# Altium schematic symbol library PJ-037A.SchLib: 1 symbol
Pins are listed as number, name and electrical type; pins without a type are passive.

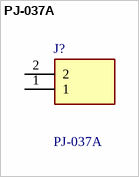
[diagram p0: symbol PJ-037A]

## PJ-037A
designator J?
PJ-037A - 2.0 x 6.5 mm, 2.5 A, Horizontal, Through Hole, Dc Power Jack Connector; Manufacturer_Name: Same Sky; Geometry.Height: 11mm; Manufacturer_Part_Number: PJ-037A; Mouser Part Number: 490-PJ-037A; Mouser Price/Stock: https://www.mouser.co.uk/ProductDetail/Same-Sky/PJ-037A?qs=WyjlAZoYn53bdNRXfildEA%3D%3D; Arrow Part Number: PJ-037A; Arrow Price/Stock: https://www.arrow.com/en/products/pj-037a/cui-devices?utm_currency=USD&region=nac; Datasheet Link: https://www.sameskydevices.com/product/resource/PJ-037A.pdf
footprint PJ037A
pins: 1, 2